# EAGLE library part 691312710006 (library Wurth_Elektronik_Electromechanic_Terminal_Blocks_Connectors_rev15c)
WR-TBL Serie 3127 - 5.0mm Open Horizontal PCB Header , 6 Pins=>Code : Con_TBL_Pluggable_5.00_PCB_H_691312710006 <http://katalog.we-online.de/media/images/eican/Con_TBL_Pluggable_5.00_PCB_H_6913127100xx_pf2.jpg> Details see: http://katalog.we-online.de/en/em/691_312_710_0xx Created 2014-06-19, Karrer Zheng 2014 (C) Würth Elektronik
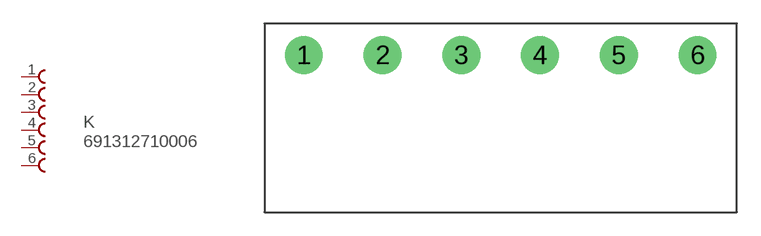
[diagram p68: symbol with the pads of 691312710006; footprint 691312710006]

Designator prefix K

## 691312710006  [691312710006]
1  1  pas
2  2  pas
3  3  pas
4  4  pas
5  5  pas
6  6  pas

## Footprint 691312710006 (pad centres in mm)
WR-TBL Serie 3127 - 5.0mm Open Horizontal PCB Header , 6 Pins
drill 1.6: 1 -5,0; 2 0,0; 3 5,0; 4 10,0; 5 15,0; 6 20,0